# Altium footprint library EVQPUC02K.PcbLib: 1 footprints
Each footprint in its own frame and in the unit in brackets; x right, y up, seen from the top. Pads: shape width x height; smd on the part's side, far side on the other; paste and mask are expansions set on the pad; w line width, h text height; cw(c..) or ccw(c..) is an arc to the next point about the centre after c.
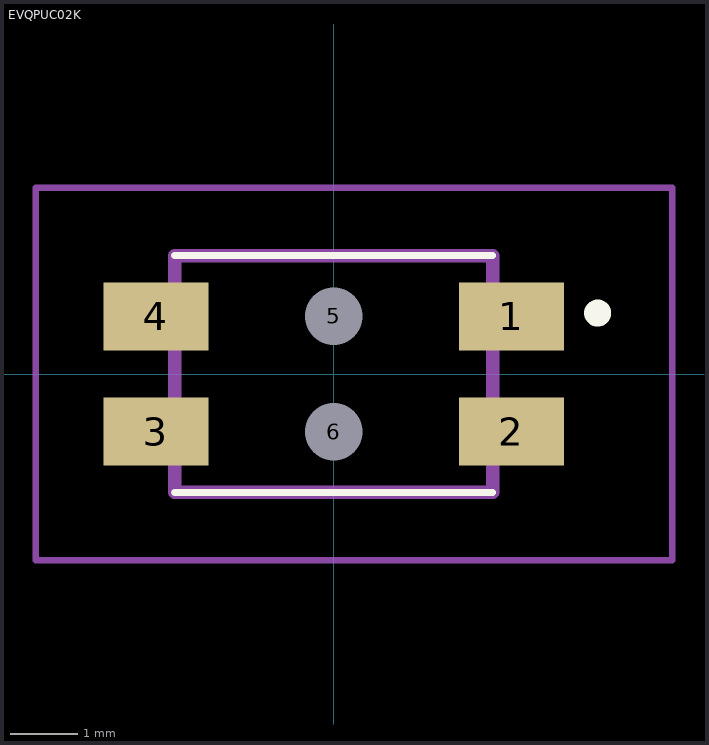
[diagram p0: the footprint, top view; thin cyan lines are the x and y axes]

## EVQPUC02K [mm]
pads (6):
  rect 1.55x1 smd: 1(2.625,0.85) 2(2.625,-0.85) 3(-2.625,-0.85) 4(-2.625,0.85)
  round 0.425 hole 0.85 unplated: 5(0,0.85) 6(0,-0.85)
Top Overlay:
  lines w0.1: -2.35,-1.75 2.35,-1.75 ; -2.35,1.75 2.35,1.75
  lines w0.2: 3.9,0.8 3.9,0.8 ; 3.9,0.8 cw(c3.9,0.9) 3.9,1 ; 3.9,0.8 ccw(c3.9,0.9) 3.9,1 ; 3.9,1 3.9,1
Mechanical 15:
  lines w0.2: -2.35,-1.75 2.35,-1.75 2.35,1.75 -2.35,1.75 -2.35,-1.75
Mechanical 20:
  lines w0.1: -4.4,-2.75 5,-2.75 5,2.75 -4.4,2.75 -4.4,-2.75